# Altium schematic symbol library RT9013-33GB.SchLib: 1 symbol
Pins are listed as number, name and electrical type; pins without a type are passive.

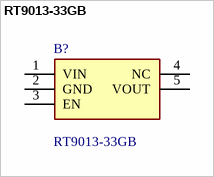
[diagram p0: symbol RT9013-33GB]

## RT9013-33GB
designator B?
RICHTEK - RT9013-33GB - IC, LDO, FIXED, 3.3V, 0.5A, SOT-23-5; Geometry.Height: 1.295mm; Mouser Part Number: 835-RT9013-33GB; Mouser Price/Stock: https://www.mouser.co.uk/ProductDetail/Richtek/RT9013-33GB?qs=amGC7iS6iy%2FHaDkSgZH71g%3D%3D; Manufacturer_Name: RICHTEK; Manufacturer_Part_Number: RT9013-33GB; Datasheet Link: https://www.richtek.com/assets/product_file/RT9013/DS9013-10.pdf
footprint SOT94P279X130-5N
pins: 1 VIN, 2 GND, 3 EN, 4 NC, 5 VOUT